# EAGLE library part MPU-9250 (library trafshlib)
Accelerometer, Gyroscope, Magnetometer, 3 Axis Sensor IC, SPI Output Source: Datasheet <http://www.invensense.com/wp-content/uploads/2015/02/PS-MPU-9250A-01-v1.1.pdf>
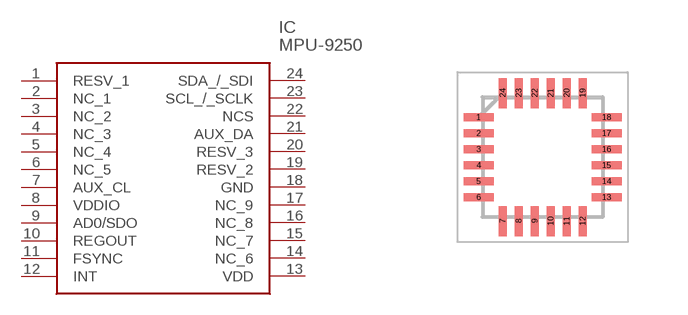
[diagram p18: symbol with the pads of QFN40P300X300X105-25N; footprint QFN40P300X300X105-25N]

Designator prefix IC

## MPU-9250 (DESCRIPTION: Accelerometer, Gyroscope, Magnetometer, 3 Axis Sensor IC, SPI Output; HEIGHT: 1.05mm; MANUFACTURER_NAME: TDK; MANUFACTURER_PART_NUMBER: MPU-9250; MOUSER_PART_NUMBER: 410-MPU-9250)  [QFN40P300X300X105-25N]
1  RESV_1
2  NC_1  nc
3  NC_2  nc
4  NC_3  nc
5  NC_4  nc
6  NC_5  nc
7  AUX_CL
8  VDDIO
9  AD0/SDO
10  REGOUT
11  FSYNC
12  INT
13  VDD
14  NC_6  nc
15  NC_7  nc
16  NC_8  nc
17  NC_9  nc
18  GND
19  RESV_2
20  RESV_3
21  AUX_DA
22  NCS
23  SCL_/_SCLK
24  SDA_/_SDI

## Footprint QFN40P300X300X105-25N (pad centres in mm)
QFN-24
smd 0.75 x 0.2: 1 -1.6,1; 2 -1.6,0.6; 3 -1.6,0.2; 4 -1.6,-0.2; 5 -1.6,-0.6; 6 -1.6,-1; 13 1.6,-1; 14 1.6,-0.6; 15 1.6,-0.2; 16 1.6,0.2; 17 1.6,0.6; 18 1.6,1
smd 0.2 x 0.75: 7 -1,-1.6; 8 -0.6,-1.6; 9 -0.2,-1.6; 10 0.2,-1.6; 11 0.6,-1.6; 12 1,-1.6; 19 1,1.6; 20 0.6,1.6; 21 0.2,1.6; 22 -0.2,1.6; 23 -0.6,1.6; 24 -1,1.6